# Altium footprint library Diodes.PcbLib: 36 footprints (part 3 of 3)
Each footprint in its own frame and in the unit in brackets; x right, y up, seen from the top. Pads: shape width x height; smd on the part's side, far side on the other; paste and mask are expansions set on the pad; w line width, h text height; cw(c..) or ccw(c..) is an arc to the next point about the centre after c.
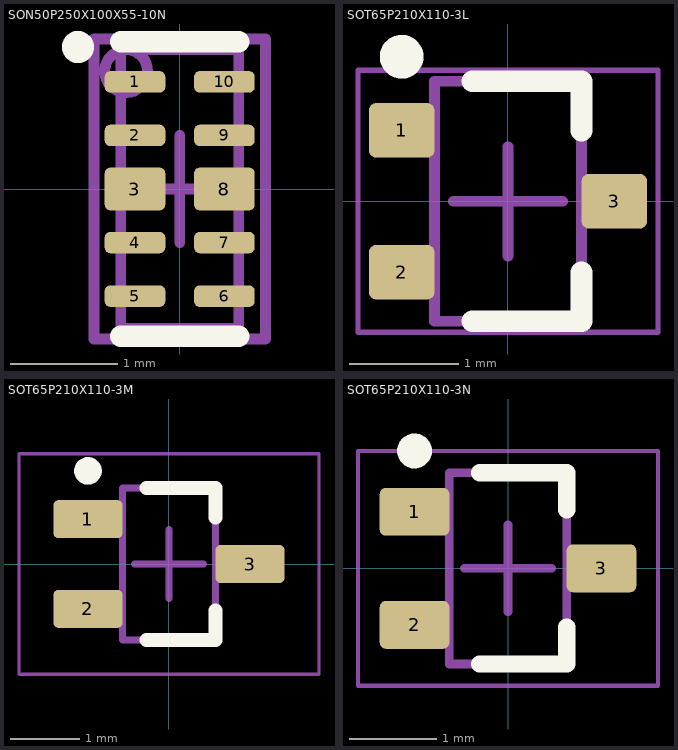
[diagram p2: the footprints below, top view; thin cyan lines are the x and y axes]

## SON50P250X100X55-10N [mm] "SON, 10-Leads, Body 2.50x1.00mm, Pitch 0.50mm, IPC Medium Density"
height 0.551
pads (10):
  rrect50% 0.565x0.2 smd paste+0 mask+0.05: 1(-0.417,1) 2(-0.417,0.5) 4(-0.417,-0.5) 5(-0.417,-1) 6(0.417,-1) 7(0.417,-0.5) 9(0.417,0.5) 10(0.417,1)
  rrect25% 0.565x0.4 smd paste+0 mask+0.05: 3(-0.417,0) 8(0.417,0)
Top Overlay:
  circle w0.2: c-0.95,1.325 r0.05
  lines w0.2: -0.55,-1.375 0.55,-1.375 ; -0.55,1.375 0.55,1.375
Top Paste:
  region: 0.7,0.13 0.7,-0.13 0.7,-0.14 0.692,-0.158 0.678,-0.172 0.66,-0.18 0.65,-0.18 0.185,-0.18 0.175,-0.18 0.157,-0.172 0.143,-0.158 0.135,-0.14 0.135,-0.13 0.135,0.13 0.135,0.14 0.143,0.158 0.157,0.172 0.175,0.18 0.185,0.18 0.65,0.18 0.66,0.18 0.678,0.172 0.692,0.158 0.7,0.14
  region: -0.65,-0.18 -0.66,-0.18 -0.678,-0.172 -0.692,-0.158 -0.7,-0.14 -0.7,-0.13 -0.7,0.13 -0.7,0.14 -0.692,0.158 -0.678,0.172 -0.66,0.18 -0.65,0.18 -0.185,0.18 -0.175,0.18 -0.157,0.172 -0.143,0.158 -0.135,0.14 -0.135,0.13 -0.135,-0.13 -0.135,-0.14 -0.143,-0.158 -0.157,-0.172 -0.175,-0.18 -0.185,-0.18
Top Component Outline:
  lines w0.1: -0.55,-1.3 0.55,-1.3 0.55,1.3 -0.55,1.3 -0.55,-1.3
Top Courtyard:
  lines w0.05: -0.8,-1.4 -0.8,1.4 0.8,1.4 0.8,-1.4 -0.8,-1.4
Top Component Center:
  lines w0.1: -0.5,0 0.5,0 ; 0,-0.5 0,0.5
Top Designator:
  text ".Designator" at -4.04,-0.476 h2
Top Assembly:
  circle w0.1: c-0.5,1.1 r0.2
  lines w0.1: -0.8,-1.4 -0.8,1.4 0.8,1.4 0.8,-1.4 -0.8,-1.4 ; -0.2,1.4 -0.2,1.4
  text ".Designator" at -4.04,-0.476 h2
3D body "TEXAS_SON50P250X100X55-10.step": height 0.55, standoff 0, extent -0.501,-1.25 0.501,1.25

## SOT65P210X110-3L [mm] "SOT23, 3-Leads, Body 2.00x2.10mm, Pitch 0.65mm, IPC High Density"
height 1.1
pads (3):
  rrect25% 0.6x0.5 smd paste+0 mask+0.05: 1(-0.975,0.65) 2(-0.975,-0.65) 3(0.975,0)
Top Overlay:
  circle w0.2: c-0.975,1.325 r0.1
  lines w0.2: -0.325,-1.1 0.675,-1.1 0.675,-0.65 ; -0.325,1.1 0.675,1.1 0.675,0.65
Top Component Outline:
  lines w0.1: -0.675,-1.1 0.675,-1.1 0.675,1.1 -0.675,1.1 -0.675,-1.1
Top Courtyard:
  lines w0.05: -1.375,-1.2 -1.375,1.2 1.375,1.2 1.375,-1.2 -1.375,-1.2
Top Component Center:
  lines w0.1: -0.5,0 0.5,0 ; 0,-0.5 0,0.5
Top Designator:
  text ".Designator" at -4.04,-0.476 h2
Top Assembly:
  lines w0.1: -0.675,-1.1 -0.675,1.1 0.675,1.1 0.675,-1.1 -0.675,-1.1
  text ".Designator" at -4.04,-0.476 h2
3D body "SOT65P210X110-3.step": height 1.1, standoff 0, extent -1.1,-1.1 1.1,1.1

## SOT65P210X110-3M [mm] "SOT23, 3-Leads, Body 2.00x2.10mm, Pitch 0.65mm, IPC Low Density"
height 1.1
pads (3):
  rrect25% 1x0.55 smd paste+0 mask+0.05: 1(-1.175,0.65) 2(-1.175,-0.65) 3(1.175,0)
Top Overlay:
  circle w0.2: c-1.175,1.35 r0.1
  lines w0.2: -0.325,-1.1 0.675,-1.1 0.675,-0.675 ; -0.325,1.1 0.675,1.1 0.675,0.675
Top Component Outline:
  lines w0.1: -0.675,-1.1 -0.675,1.1 0.675,1.1 0.675,-1.1 -0.675,-1.1
Top Courtyard:
  lines w0.05: -2.175,-1.6 2.175,-1.6 2.175,1.6 -2.175,1.6 -2.175,-1.6
Top Component Center:
  lines w0.1: -0.5,0 0.5,0 ; 0,-0.5 0,0.5
Top Designator:
  text ".Designator" at -4.04,-0.476 h2
Top Assembly:
  lines w0.1: -0.675,-1.1 0.675,-1.1 0.675,1.1 -0.675,1.1 -0.675,-1.1
  text ".Designator" at -4.04,-0.476 h2
3D body "SOT65P210X110-3.step": height 1.1, standoff 0, extent -1.1,-1.1 1.1,1.1

## SOT65P210X110-3N [mm] "SOT23, 3-Leads, Body 2.00x2.10mm, Pitch 0.65mm, IPC Medium Density"
height 1.1
pads (3):
  rrect25% 0.8x0.55 smd paste+0 mask+0.05: 1(-1.075,0.65) 2(-1.075,-0.65) 3(1.075,0)
Top Overlay:
  circle w0.2: c-1.075,1.35 r0.1
  lines w0.2: -0.325,-1.1 0.675,-1.1 0.675,-0.675 ; -0.325,1.1 0.675,1.1 0.675,0.675
Top Component Outline:
  lines w0.1: -0.675,-1.1 0.675,-1.1 0.675,1.1 -0.675,1.1 -0.675,-1.1
Top Courtyard:
  lines w0.05: -1.725,-1.35 1.725,-1.35 1.725,1.35 -1.725,1.35 -1.725,-1.35
Top Component Center:
  lines w0.1: -0.5,0 0.5,0 ; 0,-0.5 0,0.5
Top Designator:
  text ".Designator" at -4.04,-0.476 h2
Top Assembly:
  lines w0.1: -0.675,-1.1 0.675,-1.1 0.675,1.1 -0.675,1.1 -0.675,-1.1
  text ".Designator" at -4.04,-0.476 h2
3D body "SOT65P210X110-3.step": height 1.1, standoff 0, extent -1.1,-1.1 1.1,1.1